# EAGLE library part 2450BM15A0002 (library johanson)
johanson balun 2450BM15A0002
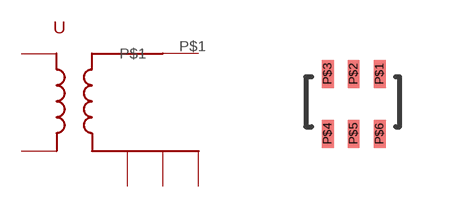
[diagram p0: symbol with the pads of 2450BM15A0002; footprint 2450BM15A0002]

Designator prefix -

## 2450BM15A0002  [2450BM15A0002]
P$1  P$1  out
P$2  P$2
P$3  P$4  in
P$4  P$3  in
P$5  P$5
P$6  P$6

## Footprint 2450BM15A0002 (pad centres in mm)
smd 0.3 x 0.7: P$1 1.65,1.375; P$2 1,1.375; P$3 0.35,1.375; P$4 0.35,-0.125; P$5 1,-0.125; P$6 1.65,-0.125